# Altium footprint library MY_PCB_Lib.PcbLib: 310 footprints (part 2 of 20)
Each footprint in its own frame and in the unit in brackets; x right, y up, seen from the top. Pads: shape width x height; smd on the part's side, far side on the other; paste and mask are expansions set on the pad; w line width, h text height; cw(c..) or ccw(c..) is an arc to the next point about the centre after c.
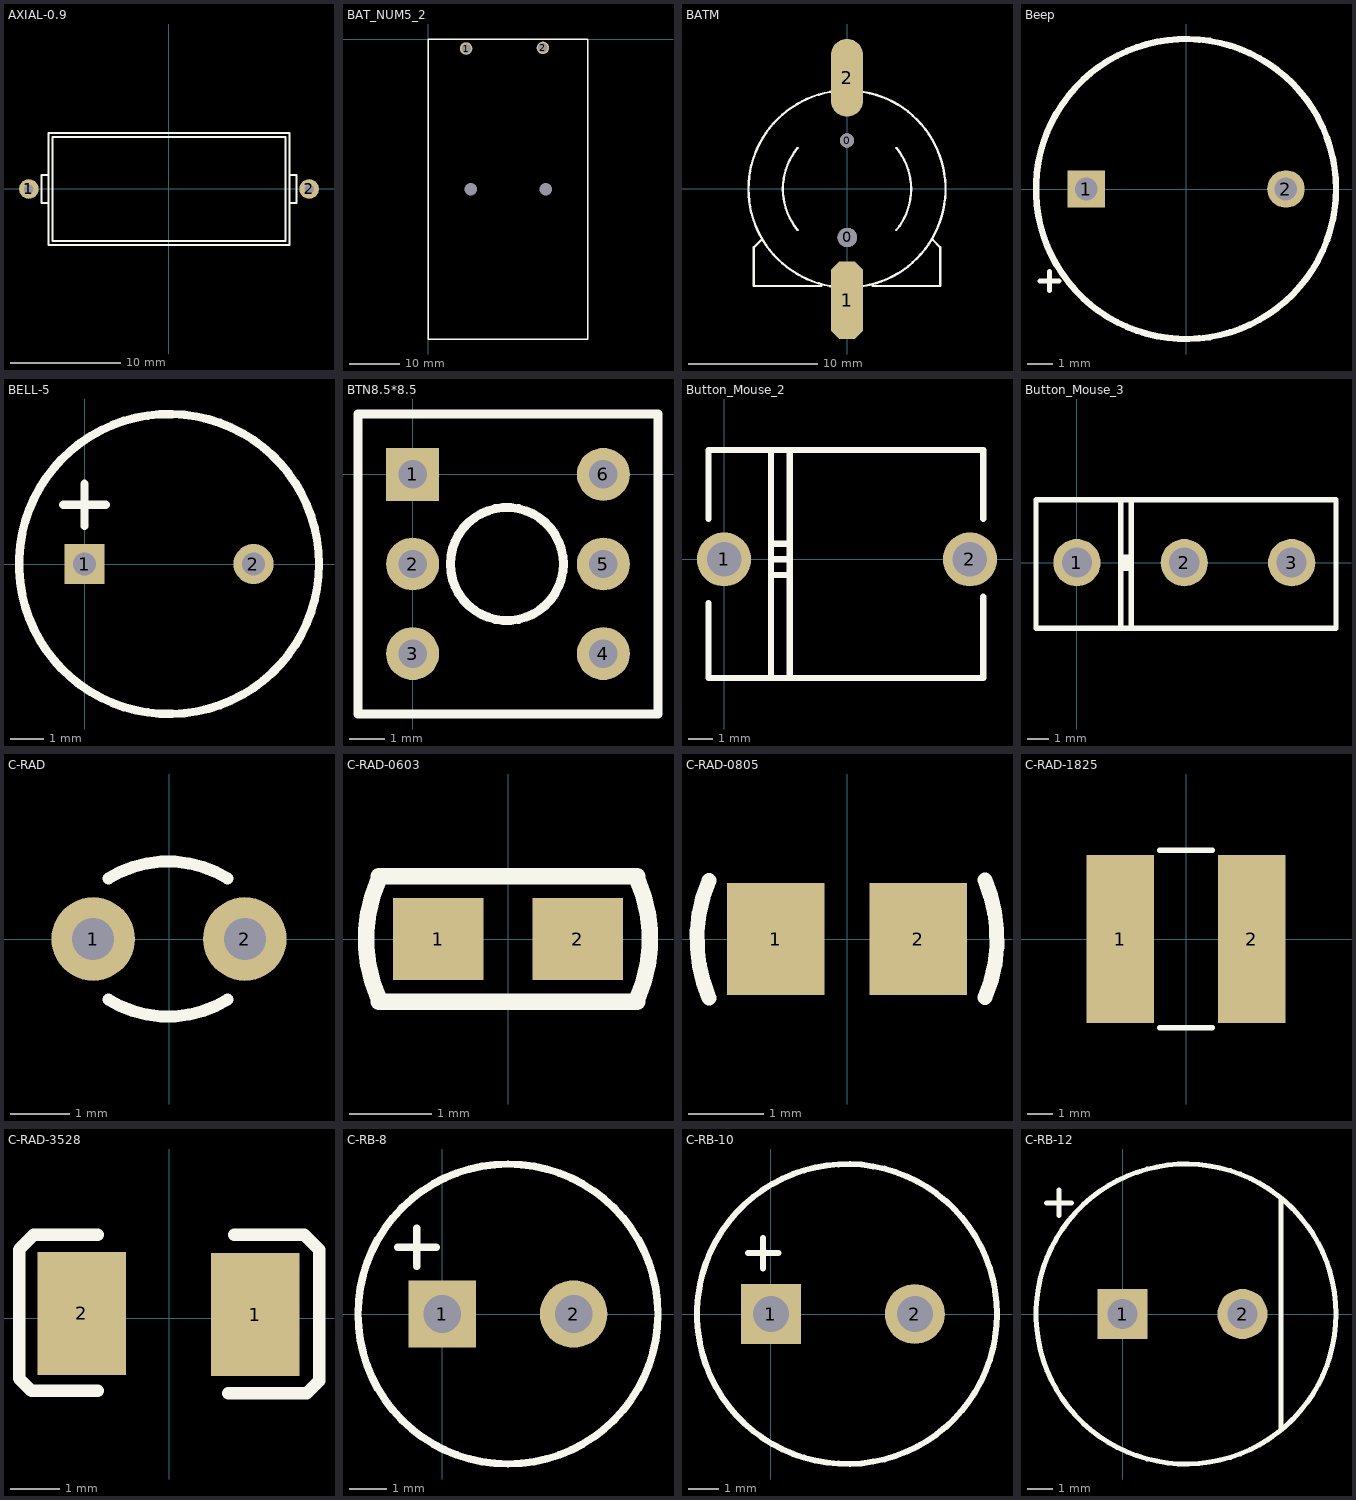
[diagram p1: the footprints below, top view; thin cyan lines are the x and y axes]

## AXIAL-0.9 [mil] "插件电阻"
height 100
pads (2):
  round 70 hole 33.46: 1(-500,0) 2(500,0)
Top Overlay:
  lines w7.87: -430,-50 -455,-50 -455,50 -430,50 ; 430,-50 455,-50 455,50 430,50 ; -430,-200 430,-200 430,200 -430,200 -430,-200 ; -415,-185 415,-185 415,185 -415,185 -415,-185

## BAT_NUM5_2 [mm]
pads (4):
  round 2.5 hole 1.9: 1(7.62,-1.905) 2(22.987,-1.778)
  round 0 hole 2.5: ""(8.5,-30) ""(23.5,-30)
Top Overlay:
  lines w0.254: 0,-60 32,-60 32,0 0,0 0,-60

## BATM [mm]
pads (4):
  round 1.1 hole 1.1 unplated: 0(0,3.748)
  round 1.5 hole 1.5 unplated: 0(0.025,-3.752)
  oct 2.5x6 smd: 1(0,-8.602)
  oval 2.5x6 smd: 2(0,8.598)
Top Overlay:
  lines w0.178: -6.6,-3.902 -7.2,-4.502 -7.2,-7.502 -2,-7.502 ; -3.815,-3.171 cw(c0,-0.002) -3.812,3.171 ; -0.833,-7.576 cw(c0,-0.002) -7.62,-0.002 cw(c0,-0.002) -0.833,7.573 ; 0.833,-7.576 ccw(c0,-0.002) 0.833,7.573 ; 2,-7.502 7.2,-7.502 7.2,-4.502 6.625,-3.927 ; 3.81,-3.177 ccw(c0,-0.002) 3.812,3.171

## Beep [mm] "蜂鸣器"
height 6
pads (2):
  rect 1.5x1.5 hole 0.9: 1(-4,0)
  round 1.5 hole 0.9: 2(4,0)
Top Overlay:
  circle w0.254: c0,0 r6
  lines w0.2: -5.842,-3.683 -5.08,-3.683 ; -5.461,-4.064 -5.461,-3.302

## BELL-5 [mm]
pads (2):
  rect 1.2x1.2 hole 0.7: 1(0,0)
  round 1.2 hole 0.7: 2(5.08,0)
Top Overlay:
  circle w0.254: c2.54,0 r4.51
  lines w0.254: -0.635,1.778 0.635,1.778 ; 0,1.143 0,2.413

## BTN8.5*8.5 [mm]
pads (6):
  rect 1.5x1.5 hole 0.8: 1(0,0)
  round 1.5 hole 0.8: 2(0,-2.54) 3(0,-5.08) 4(5.4,-5.08) 5(5.4,-2.54) 6(5.4,0)
Top Overlay:
  circle w0.254: c2.667,-2.54 r1.6
  lines w0.254: -1.55,-6.79 -1.55,1.71 6.95,1.71 6.95,-6.79 -1.55,-6.79

## Button_Mouse_2 [mm]
pads (2):
  round 2.2 hole 1.4: 1(0,0) 2(10,0)
Top Overlay:
  lines w0.254: -0.635,-1.778 -0.635,-4.826 10.541,-4.826 10.541,-1.524 ; -0.635,1.651 -0.635,4.445 10.541,4.445 10.541,1.651 ; 1.905,-4.699 1.905,4.318 ; 1.905,-0.635 2.667,-0.635 ; 1.905,0 2.667,0 ; 1.905,0.635 2.667,0.635 ; 2.667,-4.826 2.667,4.445

## Button_Mouse_3 [mm]
pads (3):
  round 2.2 hole 1.4: 1(0,0) 2(5,0) 3(10,0)
Top Overlay:
  lines w0.254: 2.032,-3.048 2.032,2.794 ; 2.032,-0.254 2.54,-0.254 ; 2.032,0 2.54,0 ; 2.032,0.254 2.413,0.254 2.54,0.127 ; 2.54,-3.048 2.54,2.921 ; -1.905,-3.048 12.065,-3.048 12.065,2.921 -1.905,2.921 -1.905,-2.413 -1.905,-3.048

## C-RAD [mm] "瓷片电容"
height 6
pads (2):
  round 1.4 hole 0.7: 1(-1.27,0) 2(1.27,0)
Top Overlay:
  lines w0.2: -1.016,-1.016 ccw(c-0.018,0.606) 0.981,-1.016 ; -1.016,1.016 cw(c-0.018,-0.606) 0.981,1.016

## C-RAD-0603 [mm] "贴片电容"
height 0.6
pads (2):
  rect 1.1x1 smd: 1(-0.85,0) 2(0.85,0)
Top Overlay:
  lines w0.2: -1.574,-0.762 1.574,-0.762 ; -1.574,-0.727 cw(c0.048,0) -1.574,0.727 ; -1.574,0.762 1.574,0.762 ; 1.574,-0.727 ccw(c-0.048,0) 1.574,0.727
3D body: height 1, standoff 0, extent -1.143,-0.381 1.143,0.381

## C-RAD-0805 [mm] "贴片电容"
height 1
pads (2):
  rect 1.3x1.5 smd: 1(-0.95,0) 2(0.95,0)
Top Overlay:
  lines w0.2: -1.842,0.779 ccw(c0,0) -1.838,-0.789 ; 1.838,0.789 cw(c0,0) 1.842,-0.779
3D body: height 0.8, standoff 0, extent -1.016,-0.635 1.016,0.635
3D body: height 0.9, standoff 0, extent -1.27,-0.635 -0.889,0.635
3D body: height 0.9, standoff 0, extent 0.889,-0.635 1.27,0.635

## C-RAD-1825 [mm] "贴片电阻"
pads (2):
  rect 2.6x6.5 smd: 1(-2.54,0) 2(2.54,0)
Top Overlay:
  lines w0.2: -1.016,-3.429 1.016,-3.429 ; -1.016,3.429 1.016,3.429
3D body: height 1.2, standoff 0, extent -2.286,-3.175 2.286,3.175

## C-RAD-3528 [mm] "贴片电容"
height 3
pads (2):
  rect 1.8x2.5 smd: 1(1.753,0.075) 2(-1.772,0.1)
Top Overlay:
  lines w0.254: -1.447,-1.475 -2.794,-1.475 -3.048,-1.221 -3.048,1.397 -2.745,1.7 -1.447,1.7 ; 1.203,-1.524 2.794,-1.524 3.048,-1.27 3.048,1.397 2.794,1.651 2.745,1.7 1.328,1.7

## C-RB-8 [mm] "35V 220UF电容"
height 12
pads (2):
  rect 1.8x1.8 hole 1: 1(0,0)
  round 1.8 hole 1: 2(3.5,0)
Top Overlay:
  circle w0.2: c1.75,0 r4
  lines w0.2: -1.185,1.778 -0.169,1.778 ; -0.677,1.27 -0.677,2.286

## C-RB-10 [mm] "35V470uF电容"
height 16
pads (2):
  rect 2x2 hole 1.2: 1(0,0)
  round 2 hole 1.2: 2(4.8,0)
Top Overlay:
  circle w0.2: c2.54,0 r5
  lines w0.2: -0.762,2.032 0.254,2.032 ; -0.254,1.524 -0.254,2.54

## C-RB-12 [mm] "35V470uF电容"
height 20
pads (2):
  rect 2x2 hole 1.2: 1(0,0)
  round 2 hole 1.2: 2(4.8,0)
Top Overlay:
  circle w0.2: c2.54,0 r6
  lines w0.2: -3.048,4.445 -2.032,4.445 ; -2.54,3.937 -2.54,4.953 ; 6.35,-4.572 6.35,4.572